# EAGLE library part MINI-USB-5 (library be_con_jump)
edited: Mario Blunk / Blunk electronic
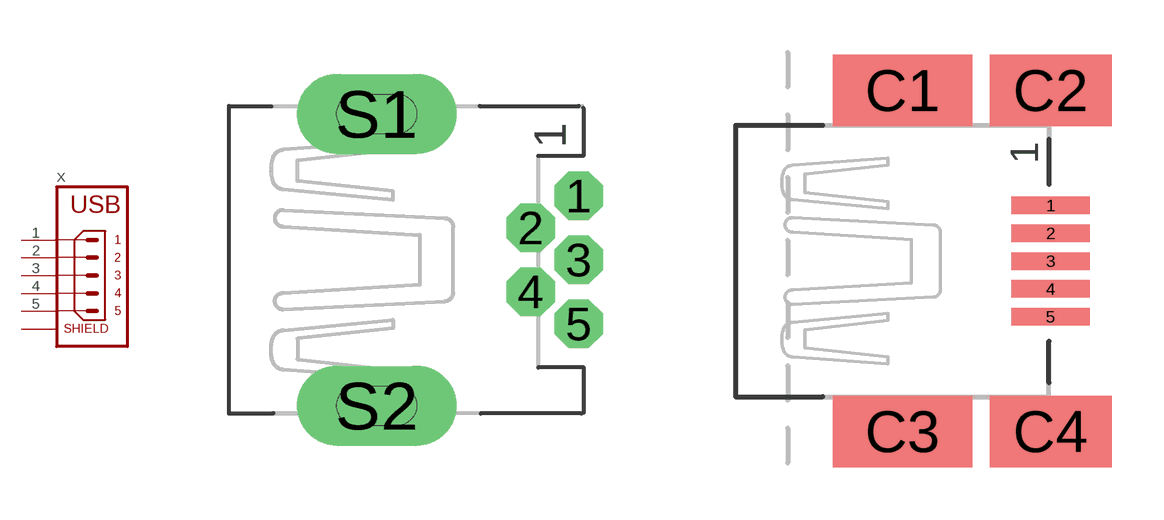
[diagram p2: symbol with the pads of T_MINI-USB-5; footprints T_MINI-USB-5, S_MINI-USB-5]

Designator prefix X

## MINI-USB-5-T (BOM: YES; COMMISSIONED: 2013-08-30; PART_CODE_BEL: X_PAC_T_MINI-USB-5; UPDATED: 2018-08-13)  [T_MINI-USB-5]
1  1  pas
2  2  pas
3  3  pas
4  4  pas
5  5  pas
S1  S  pas
S2  S  pas

## MINI-USB-5-S (BOM: YES; COMMISSIONED: 2018-08-15; PART_CODE_BEL: X_PAC_S_MINI-USB-5)  [S_MINI-USB-5]
1  1  pas
2  2  pas
3  3  pas
4  4  pas
5  5  pas
C1  S  pas
C2  S  pas
C3  S  pas
C4  S  pas

## Footprint T_MINI-USB-5 (pad centres in mm)
edited: Mario Blunk / Blunk electronic date: 2018-08-13
drill 0.7 pad 1.1 octagon: 1 2.825,1.6; 2 1.625,0.8; 3 2.825,0; 4 1.625,-0.8; 5 2.825,-1.6
drill 1 pad 2 long: S1 -2.225,3.65; S2 -2.225,-3.65

## Footprint S_MINI-USB-5 (pad centres in mm)
edited: Mario Blunk / Blunk electronic date: 2018-08-15
smd 2.25 x 0.5: 1 9.05,1.6; 2 9.05,0.8; 3 9.05,0; 4 9.05,-0.8; 5 9.05,-1.6
smd 4 x 2.05: C1 4.8,4.9; C3 4.8,-4.9
smd 3.5 x 2.05: C2 9.05,4.9; C4 9.05,-4.9